# EAGLE library part ESD7004MUTAG (library ESD7004MUTAG)
Low Capacitance (0.2 pF Typical, I/O to I/O); Protection for the Following IEC Standards: IEC 61000-4-2 (+/-15 kV Contact); UL Flammability Rating of 94 V0; This is a Pb-Free Device; Low ESD Clamping Voltage Source: Datasheet <https://www.onsemi.com/pub/Collateral/ESD7004-D.PDF>
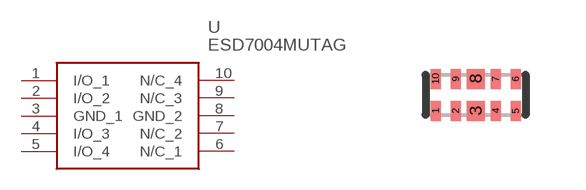
[diagram p0: symbol with the pads of UDFN10_CASE_517BB; footprint UDFN10_CASE_517BB]

Designator prefix U

## ESD7004MUTAG (Arrow_Part_Number: ESD7004MUTAG; Arrow_Price-Stock: https://www.arrow.com/en/products/esd7004mutag/on-semiconductor?region=nac; Description: Low Capacitance (0.2 pF Typical, I/O to I/O); Protection for the Following IEC Standards: IEC 61000-4-2 (+/-15 kV Contact); UL Flammability Rating of 94 V0; This is a Pb-Free Device; Low ESD Clamping Voltage; Height: mm; Manufacturer_Name: onsemi; Manufacturer_Part_Number: ESD7004MUTAG; Mouser_Part_Number: 863-ESD7004MUTAG; Mouser_Price-Stock: https://www.mouser.co.uk/ProductDetail/onsemi/ESD7004MUTAG?qs=uSWsySAm7xTESuaYt1MNNQ%3D%3D)  [UDFN10_CASE_517BB]
1  I/O_1
2  I/O_2
3  GND_1
4  I/O_3
5  I/O_4
6  N/C_1
7  N/C_2
8  GND_2
9  N/C_3
10  N/C_4

## Footprint UDFN10_CASE_517BB (pad centres in mm)
UDFN10_CASE_517BB
smd 0.25 x 0.5: 1 -1,-0.4; 2 -0.5,-0.4; 4 0.5,-0.4; 5 1,-0.4; 6 1,0.4; 7 0.5,0.4; 9 -0.5,0.4; 10 -1,0.4
smd 0.45 x 0.5: 3 0,-0.4; 8 0,0.4